# Altium footprint library JS102011CQN.PcbLib: 1 footprints
Each footprint in its own frame and in the unit in brackets; x right, y up, seen from the top. Pads: shape width x height; smd on the part's side, far side on the other; paste and mask are expansions set on the pad; w line width, h text height; cw(c..) or ccw(c..) is an arc to the next point about the centre after c.
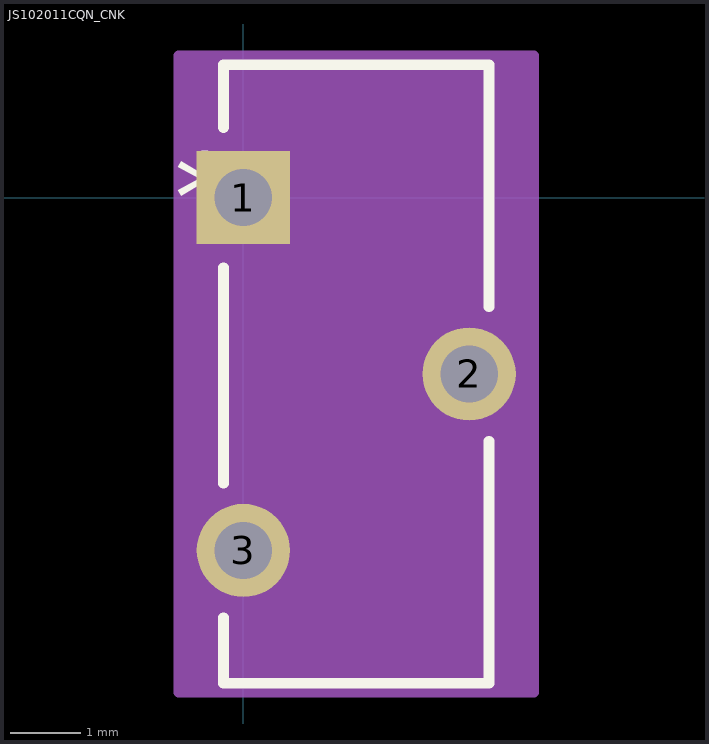
[diagram p0: the footprint, top view; thin cyan lines are the x and y axes]

## JS102011CQN_CNK [mil]
pads (3):
  rect 52x52 / inner round 60 / far side rect 52x52 hole 32 paste-26 mask+0: 1(0,0)
  round 52 / inner round 60 / far side round 52 hole 32 paste-26 mask+0: 2(125.98,-98.43) 3(0,-196.85)
Top Overlay:
  lines w6: -11.01,-234.37 -11.01,-270.93 136.99,-270.93 136.99,-135.94 ; -11.01,-159.33 -11.01,-39.1 ; -11.01,39.1 -11.01,74.07 136.99,74.07 136.99,-60.91
  text "*" at -38.51,-25 h50
Mechanical 13:
  region: 94.49,-169.43 31.49,-169.43 31.49,-98.43 94.49,-98.43
  lines w1: -6.01,-265.93 131.99,-265.93 131.99,69.07 -6.01,69.07 -6.01,-265.93 ; 31.49,-169.43 31.49,-27.43 94.49,-27.43 94.49,-169.43 31.49,-169.43
  text "*" at -3.51,-25 h50
Mechanical 15:
  region: 161.98,-275.93 -36,-275.93 -36,79.07 161.98,79.07
  lines w6: -36,-275.93 161.98,-275.93 161.98,79.07 -36,79.07 -36,-275.93